# EAGLE library part ATMEL_TINY11* (library AdapterDIP8M16)
MICROCONTROLLER 1 Kbytes FLASH
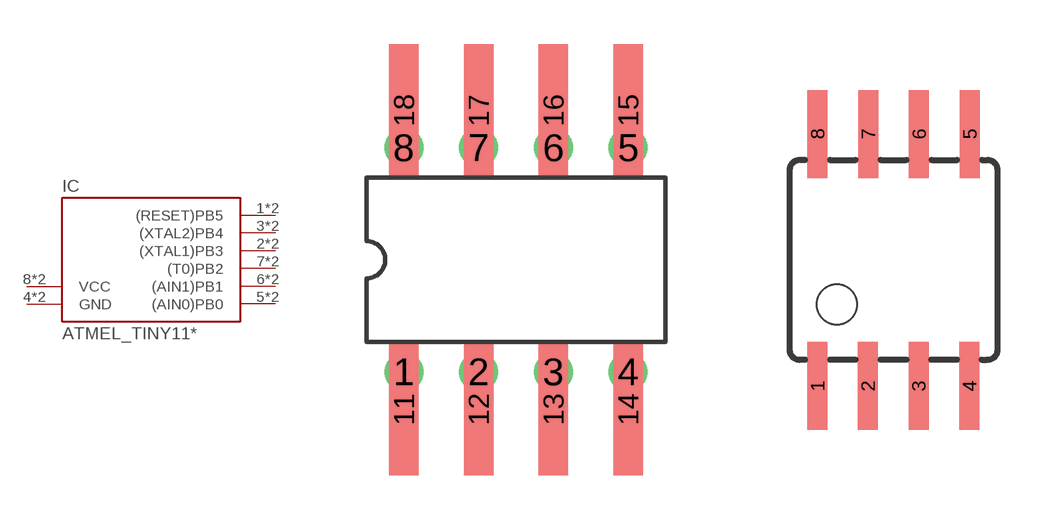
[diagram p4: symbol with the pads of ATMEL_DIL08; footprints ATMEL_DIL08, ATMEL_SOIC8]

Designator prefix IC

## ATMEL_TINY11P, ATMEL_TINY11LP  [ATMEL_DIL08]
1  (RESET)PB5
2  (XTAL1)PB3
3  (XTAL2)PB4
4  GND  pwr
5  (AIN0)PB0
6  (AIN1)PB1
7  (T0)PB2
8  VCC  pwr
11  (RESET)PB5
12  (XTAL1)PB3
13  (XTAL2)PB4
14  GND  pwr
15  (AIN0)PB0
16  (AIN1)PB1
17  (T0)PB2
18  VCC  pwr

## ATMEL_TINY11S, ATMEL_TINY11LS  [ATMEL_SOIC8]
1  (RESET)PB5
2  (XTAL1)PB3
3  (XTAL2)PB4
4  GND  pwr
5  (AIN0)PB0
6  (AIN1)PB1
7  (T0)PB2
8  VCC  pwr

## Footprint ATMEL_DIL08 (pad centres in mm)
Dual In Line
drill 0.813: 1 -3.81,-3.81; 2 -1.27,-3.81; 3 1.27,-3.81; 4 3.81,-3.81; 5 3.81,3.81; 6 1.27,3.81; 7 -1.27,3.81; 8 -3.81,3.81
smd 1 x 4.5: 11 -3.81,-5.08; 12 -1.27,-5.08; 13 1.27,-5.08; 14 3.81,-5.08; 15 3.81,5.08; 16 1.27,5.08; 17 -1.27,5.08; 18 -3.81,5.08

## Footprint ATMEL_SOIC8 (pad centres in mm)
Wide Plastic Gull Wing Small Outline Package
smd 0.5 x 2.2: 1 -1.905,-3.154; 2 -0.645,-3.154; 3 0.625,-3.154; 4 1.895,-3.154; 5 1.905,3.154; 6 0.635,3.154; 7 -0.635,3.154; 8 -1.905,3.154